# Altium schematic symbol library RES-001 AutoHAT V2 SD Adapter Sub-Board.SchLib: 6 symbols
Pins are listed as number, name and electrical type; pins without a type are passive.

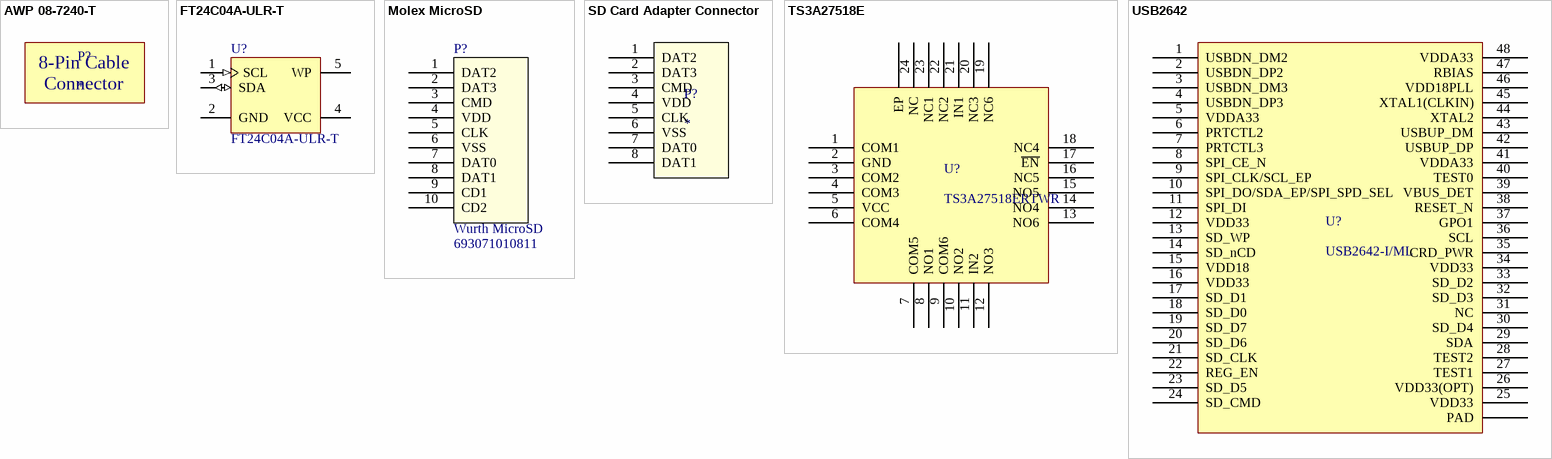
[diagram p0: symbols AWP 08-7240-T to USB2642]

## AWP 08-7240-T
designator P?  (mechanical)
8 Position Rectangular Socket Connector IDC Gold; Manufacturer: Assmann WSW Components; Manufacturer Part No.: AWP 08-7240-T; Cost_1: 0.96000; Cost_100: 0.72790; Cost_1000: 0.52940; Load: YES; Supplier: Digi-Key; Supplier Part No.: AE11246-ND
text: 8-Pin Cable Connector

## FT24C04A-ULR-T
designator U?
EEPROM Memory IC 4Kb (512 x 8) I²C 550ns SOT-23-5; Manufacturer: Fremont Micro Devices USA; Load: 0.17283; Cost_1: 0.48000; Cost_100: 0.30500; Manufacturer Part No.: FT24C04A-ULR-T; Mount: SMT; Supplier: Digi-Key; Supplier Part No.: 1219-1066-1-ND
footprint SOT-23-5
pins: 1 SCL (in), 2 GND (power), 3 SDA (io), 4 VCC (power), 5 WP

## Molex MicroSD
designator P?, comment Wurth MicroSD  Manufacturer Part No.: 693071010811
Value: 693071010811; Manufacturer: Wurth; Mount: SMT; Supplier: Wurth; Supplier Part No.: 693071010811
footprint 693071010811 (WR-CRD Micro SD_Push and Push_Card Detection_8 pins)
pins: 1 DAT2, 2 DAT3, 3 CMD, 4 VDD, 5 CLK, 6 VSS, 7 DAT0, 8 DAT1, 9 CD1, 10 CD2

## SD Card Adapter Connector
designator P?  (no BOM)
SD Card Adapter Connector
footprint SD Card
pins: 1 DAT2, 2 DAT3, 3 CMD, 4 VDD, 5 CLK, 6 VSS, 7 DAT0, 8 DAT1

## TS3A27518E
designator U?, comment TS3A27518ERTWR
IC MUX/DEMUX 6X1 24WQFN; Manufacturer: Texas Instruments; Cost_1: 2.56000; Cost_100: 1.84820; Cost_1000: 1.25813; Load: YES; Manufacturer Part No.: TS3A27518ERTWR; Mount: SMT; Package: 24-WQFN; Supplier: Digi-Key; Supplier Part No.: 296-25415-1-ND
footprint QFN-24
pins: 0 EP, 1 COM1, 2 GND, 3 COM2, 4 COM3, 5 VCC, 6 COM4, 7 COM5, 8 NO1, 9 COM6, 10 NO2, 11 IN2, 12 NO3, 13 NO6, 14 NO4, 15 NO5, 16 NC5, 17 ~{EN}, 18 NC4, 19 NC6, 20 NC3, 21 IN1, 22 NC2, 23 NC1, 24 NC

## USB2642
designator U?, comment USB2642-I/ML
IC FLASH MEDIA CTLR USB2 48VQFN; Manufacturer: Microchip Technology; Cost_1: 5.09000; Cost_100: 4.09740; Load: YES; Manufacturer Part No.: USB2642-I/ML; Mount: SMT; Package: 48-QFN; Supplier: Digi-Key; Supplier Part No.: USB2642-I/ML-ND
footprint QFN48
pins: 1 USBDN_DM2, 2 USBDN_DP2, 3 USBDN_DM3, 4 USBDN_DP3, 5 VDDA33, 6 PRTCTL2, 7 PRTCTL3, 8 SPI_CE_N, 9 SPI_CLK/SCL_EP, 10 SPI_DO/SDA_EP/SPI_SPD_SEL, 11 SPI_DI, 12 VDD33, 13 SD_WP, 14 SD_nCD, 15 VDD18, 16 VDD33, 17 SD_D1, 18 SD_D0, 19 SD_D7, 20 SD_D6, 21 SD_CLK, 22 REG_EN, 23 SD_D5, 24 SD_CMD, 25 VDD33, 26 VDD33(OPT), 27 TEST1, 28 TEST2, 29 SDA, 30 SD_D4, 31 NC, 32 SD_D3, 33 SD_D2, 34 VDD33, 35 CRD_PWR, 36 SCL, 37 GPO1, 38 RESET_N, 39 VBUS_DET, 40 TEST0, 41 VDDA33, 42 USBUP_DP, 43 USBUP_DM, 44 XTAL2, 45 XTAL1(CLKIN), 46 VDD18PLL, 47 RBIAS, 48 VDDA33, PAD